# EAGLE library part 1X08 (library foe-scale)
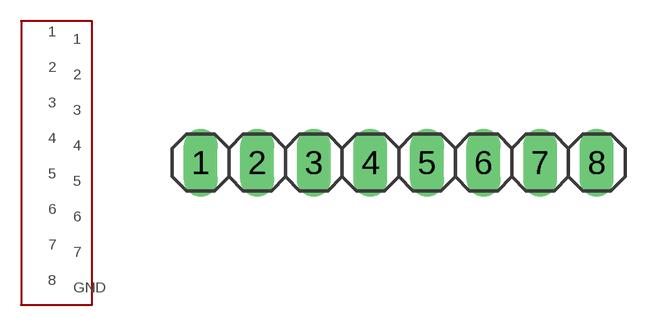
[diagram p11: symbol with the pads of 1X08; footprint 1X08]

Designator prefix -

## 1X08THROUGHHOLE  [1X08]
1  1
2  2
3  3
4  4
5  5
6  6
7  7
8  GND

## Footprint 1X08 (pad centres in mm)
PIN HEADER
drill 1.016 long: 1 -8.89,0; 2 -6.35,0; 3 -3.81,0; 4 -1.27,0; 5 1.27,0; 6 3.81,0; 7 6.35,0; 8 8.89,0